# EAGLE library part ATTINY261A (library EVT-Eagle-Library)
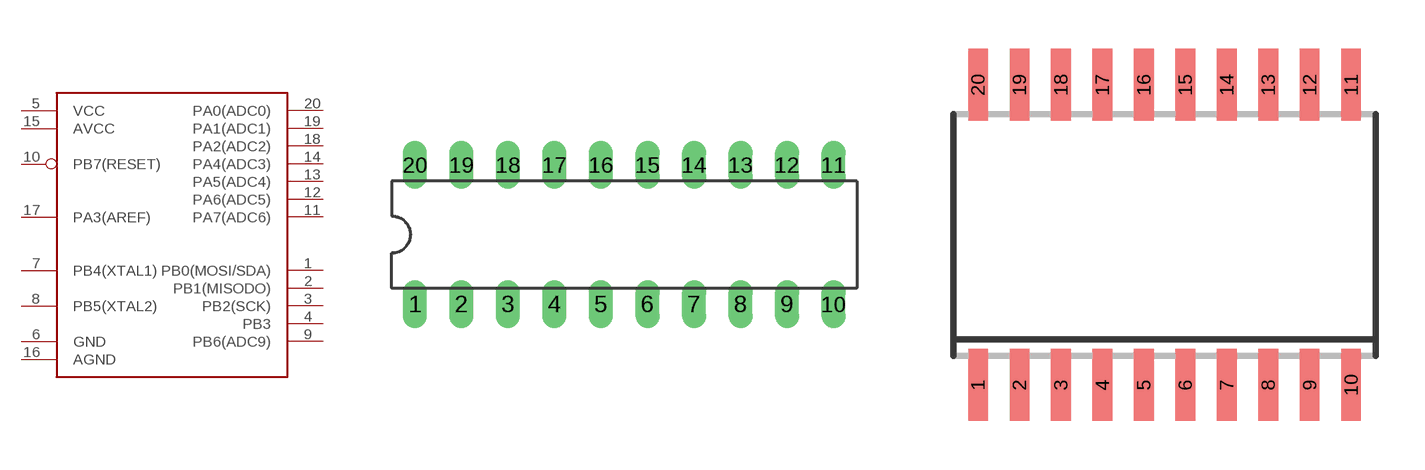
[diagram p2: symbol with the pads of DIL20; footprints DIL20, SO20W]

Designator prefix -

## ATTINY261ADIP  [DIL20]
1  PB0(MOSI/SDA)
2  PB1(MISODO)
3  PB2(SCK)
4  PB3
5  VCC
6  GND
7  PB4(XTAL1)
8  PB5(XTAL2)
9  PB6(ADC9)
10  PB7(RESET)
11  PA7(ADC6)
12  PA6(ADC5)
13  PA5(ADC4)
14  PA4(ADC3)
15  AVCC
16  AGND
17  PA3(AREF)
18  PA2(ADC2)
19  PA1(ADC1)
20  PA0(ADC0)

## ATTINY261ASOC  [SO20W]
Pads as for DIL20

## Footprint DIL20 (pad centres in mm)
Dual In Line Package
drill 0.813 long: 1 -11.43,-3.81; 2 -8.89,-3.81; 3 -6.35,-3.81; 4 -3.81,-3.81; 5 -1.27,-3.81; 6 1.27,-3.81; 7 3.81,-3.81; 8 6.35,-3.81; 9 8.89,-3.81; 10 11.43,-3.81; 11 11.43,3.81; 12 8.89,3.81; 13 6.35,3.81; 14 3.81,3.81; 15 1.27,3.81; 16 -1.27,3.81; 17 -3.81,3.81; 18 -6.35,3.81; 19 -8.89,3.81; 20 -11.43,3.81

## Footprint SO20W (pad centres in mm)
Small Outline Package 20 wide
smd 0.6 x 2.2: 1 -5.715,-4.6; 2 -4.445,-4.6; 3 -3.175,-4.6; 4 -1.905,-4.6; 5 -0.635,-4.6; 6 0.635,-4.6; 7 1.905,-4.6; 8 3.175,-4.6; 9 4.445,-4.6; 10 5.715,-4.6; 11 5.715,4.6; 12 4.445,4.6; 13 3.175,4.6; 14 1.905,4.6; 15 0.635,4.6; 16 -0.635,4.6; 17 -1.905,4.6; 18 -3.175,4.6; 19 -4.445,4.6; 20 -5.715,4.6